# Altium schematic symbol library ANT_PORT_2GND.Schlib: 1 symbol
Pins are listed as number, name and electrical type; pins without a type are passive.

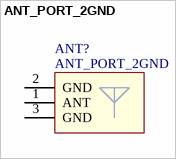
[diagram p0: symbol ANT_PORT_2GND]

## ANT_PORT_2GND
designator ANT?
pins: 1 ANT, 2 GND, 3 GND